# EAGLE library part LM1881-BACKUP (library dpx-IC)
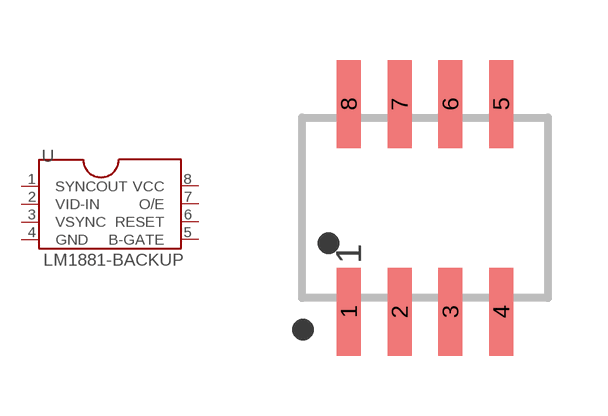
[diagram p7: symbol with the pads of SOP08; footprint SOP08]

Designator prefix -

## LM1881-BACKUPSOP  [SOP08]
1  SYNCOUT  out
2  VID-IN  pas
3  VSYNC  pas
4  GND  pas
5  B-GATE  pas
6  RESET  pas
7  O/E  pas
8  VCC  pas

## Footprint SOP08 (pad centres in mm)
SMALL OUTLINE PACKAGE
smd 0.6 x 2.2: 1 -1.905,-2.6; 2 -0.635,-2.6; 3 0.635,-2.6; 4 1.905,-2.6; 5 1.905,2.6; 6 0.635,2.6; 7 -0.635,2.6; 8 -1.905,2.6